# EAGLE library part A2530 (library CC2530_PCB_TL)
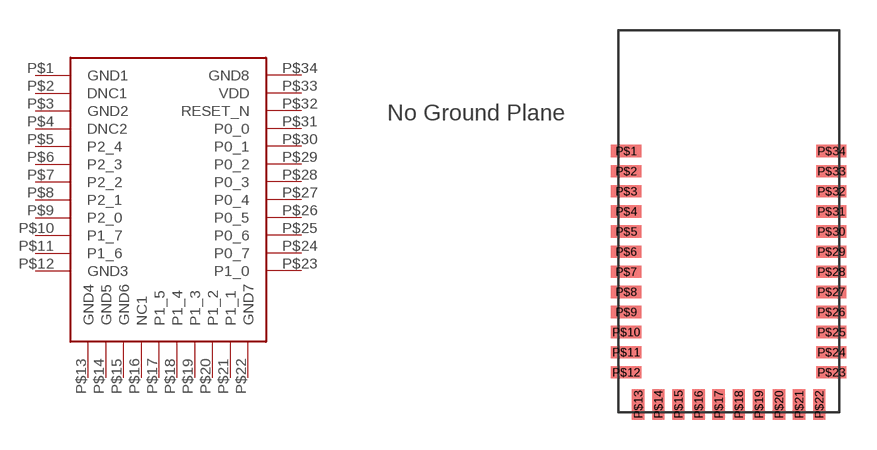
[diagram p17: symbol with the pads of A2530; footprint A2530]

Designator prefix -

## A2530  [A2530]
P$1  GND1
P$2  DNC1
P$3  GND2
P$4  DNC2
P$5  P2_4
P$6  P2_3
P$7  P2_2
P$8  P2_1
P$9  P2_0
P$10  P1_7
P$11  P1_6
P$12  GND3
P$13  GND4
P$14  GND5
P$15  GND6
P$16  NC1
P$17  P1_5
P$18  P1_4
P$19  P1_3
P$20  P1_2
P$21  P1_1
P$22  GND7
P$23  P1_0
P$24  P0_7
P$25  P0_6
P$26  P0_5
P$27  P0_4
P$28  P0_3
P$29  P0_2
P$30  P0_1
P$31  P0_0
P$32  RESET_N
P$33  VDD
P$34  GND8

## Footprint A2530 (pad centres in mm)
smd 1.5 x 0.61: P$1 -5.1,3.81; P$2 -5.1,2.81; P$3 -5.1,1.81; P$4 -5.1,0.81; P$5 -5.1,-0.19; P$6 -5.1,-1.19; P$7 -5.1,-2.19; P$8 -5.1,-3.19; P$9 -5.1,-4.19; P$10 -5.1,-5.19; P$11 -5.1,-6.19; P$12 -5.1,-7.19; P$23 5.1,-7.19; P$24 5.1,-6.19; P$25 5.1,-5.19; P$26 5.1,-4.19; P$27 5.1,-3.19; P$28 5.1,-2.19; P$29 5.1,-1.19; P$30 5.1,-0.19; P$31 5.1,0.81; P$32 5.1,1.81; P$33 5.1,2.81; P$34 5.1,3.81
smd 0.61 x 1.5: P$13 -4.5,-8.79; P$14 -3.5,-8.79; P$15 -2.5,-8.79; P$16 -1.5,-8.79; P$17 -0.5,-8.79; P$18 0.5,-8.79; P$19 1.5,-8.79; P$20 2.5,-8.79; P$21 3.5,-8.79; P$22 4.5,-8.79